# Altium integrated library Linear Technology Power Management Battery Management.IntLib: 626 symbols (part 8 of 56)
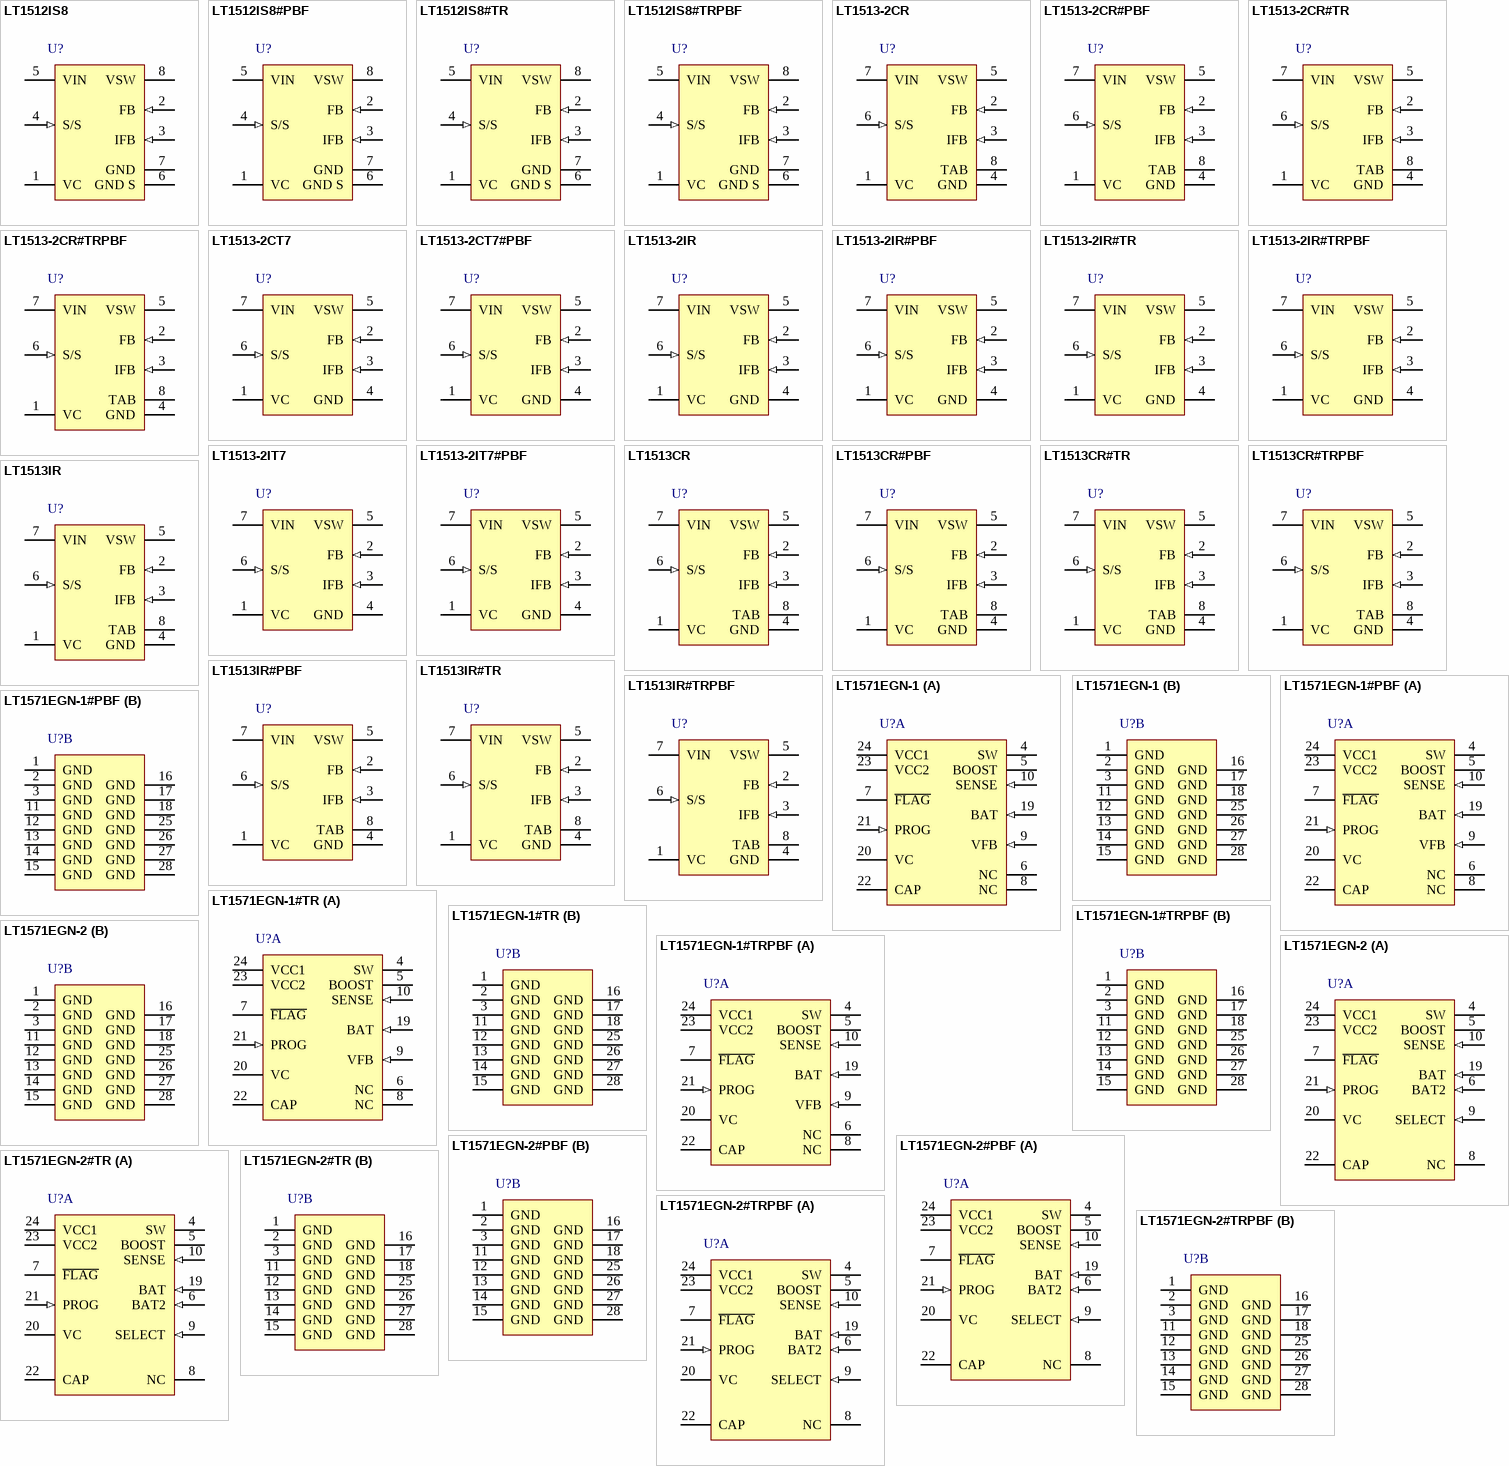
[diagram p29: symbols LT1512IS8 to LT1571EGN-2#TRPBF]

## LT1571EGN-2
designator U?
Integrated Switching Charger with C/10 Detection / Indicator, 6.2 to 27 V Vin, 28-pin SOP (GN-28), -40 to 85 degC; Manufacturer: Linear Technology; PartNumber: LT1571EGN-2; Battery Chemistry: Li-Ion, Li-Polymer; Charge Termination: Microcontroller; Float Voltage: 8.2 V, 8.4 V; Max Charge Current(A): 1.5; Number of Cells: 1, 2, Adj; Vin Max(V): 27; Vin Min(V): 6.2; PackageVersion: Rev. B, 03/2012; PackageReference: GN-28; PackageDescription: 28-Pin Plastic SSOP, Body 9.9 x 3.9 mm, Pitch 0.635 mm; Supplier 1: Digi-Key; Supplier Part Number 1: LT1571EGN-2-ND; RoHS: FALSE; Type of Charger: Switching; Mounting Technology: Surface Mount; ComponentLink1Description: Manufacturer URL; ComponentLink1URL: http://www.linear.com/; ComponentLink2Description: Datasheet; ComponentLink2URL: http://cds.linear.com/docs/en/datasheet/1571f.pdf; ComponentLink3Description: Package Specification; ComponentLink3URL: http://cds.linear.com/docs/en/packaging/05081641_B_GN28.pdf
footprint LT-GN-28_N (SOP, 28-Leads, Body 9.98x3.98mm, Pitch 0.635mm, IPC Medium Density)
footprint LT-GN-28_L (SOP, 28-Leads, Body 9.98x3.98mm, Pitch 0.635mm, IPC High Density)
footprint LT-GN-28_M (SOP, 28-Leads, Body 9.98x3.98mm, Pitch 0.635mm, IPC Low Density)
part A pins: 4 SW (power) "NPN Power Switch Emitter. The Schottky catch diode must be placed with very short lead length in close proximity to SW pin and GND", 5 BOOST "This pin is used to bootstrap and drive the NPN switch to a low on-voltage for low power dissipation. VBOOST= VCC + VBAT when switch is on. For less power dissipation use VBOOST = 3V to 6V (see Applications Information).", 6 BAT2 (in) "This pin is used to connect the battery to the internal preset voltage setting resistor. An internal switch disconnects the internal divider from the battery when the device is in shutdown or when input power is disconnected.(See Datasheet)", 7 ~{FLAG} (oc) "This pin is an open-collector output that is used to indicate end of charge. The F\L\A\G\ pin is driven low when the charge current drops below a certain percentage of the programmed charge current as explained in the CAP (See Datasheet)", 8 NC, 9 SELECT (in) "This pin is used to select the preset battery voltage. For the LT1571-2, leave this pin open for 8.2V and ground it for 8.4V. For the LT1571-5, leave this pin open for 4.1V and ground it for 4.2V. For other battery voltages, (See Datasheet)", 10 SENSE (in) "Current Amplifier CA1 Input. Sensing can be at either terminal of the battery. Note that current sense resistor RS1 (0.08W) is between SENSE and BAT pins.", 19 BAT (in) "Current Amplifier CA1 Input.", 20 VC "This is the inner loop control signal of the current mode PWM. Switching starts at 0.9V. In normal operation, a higher VC corresponds to a higher charge current. A capacitor of at least 0.1uF to GND filters out noise and (See Datasheet)", 21 PROG (in) "This pin is for programming the charge current and for system loop compensation. Charge current is regulated to 2000x the current drawn from the PROG pin. During normal operation, VPROG stays close to 2.465V. If it is (See Datasheet)", 22 CAP "A 0.1uF capacitor from CAP to ground is needed to filter the sampled charge current signal. This filtered signal is used to set the F\L\A\G\ pin when the charge current drops to 20% of the programmed maximum charge current. (See Datasheet)", 23 VCC2 (power) "Input Supply. For good bypass, a low ESR capacitor of 10uF or higher is required, with the lead length kept to a minimum. VCC should be between 8V and 26V and at least 2V higher than VBAT for VBAT less than 10V, and 2.5V (See Datasheet)", 24 VCC1 (power) "Input Supply. For good bypass, a low ESR capacitor of 10uF or higher is required, with the lead length kept to a minimum. VCC should be between 8V and 26V and at least 2V higher than VBAT for VBAT less than 10V, and 2.5V (See Datasheet)"
part B pins: 1 GND (power) "Ground Pin.", 2 GND (power) "Ground Pin.", 3 GND (power) "Ground Pin.", 11 GND (power) "Ground Pin.", 12 GND (power) "Ground Pin.", 13 GND (power) "Ground Pin.", 14 GND (power) "Ground Pin.", 15 GND (power) "Ground Pin.", 16 GND (power) "Ground Pin.", 17 GND (power) "Ground Pin.", 18 GND (power) "Ground Pin.", 25 GND (power) "Ground Pin.", 26 GND (power) "Ground Pin.", 27 GND (power) "Ground Pin.", 28 GND (power) "Ground Pin."

## LT1571EGN-2#PBF
designator U?
Integrated Switching Charger with C/10 Detection / Indicator, 6.2 to 27 V Vin, 28-pin SOP (GN-28), -40 to 85 degC, Pb-Free; Manufacturer: Linear Technology; PartNumber: LT1571EGN-2#PBF; Battery Chemistry: Li-Ion, Li-Polymer; Charge Termination: Microcontroller; Float Voltage: 8.2 V, 8.4 V; Max Charge Current(A): 1.5; Number of Cells: 1, 2, Adj; Vin Max(V): 27; Vin Min(V): 6.2; PackageVersion: Rev. B, 03/2012; PackageReference: GN-28; PackageDescription: 28-Pin Plastic SSOP, Body 9.9 x 3.9 mm, Pitch 0.635 mm; Supplier 1: Digi-Key; Supplier Part Number 1: LT1571EGN-2#PBF-ND; Supplier 2: Farnell; Supplier Part Number 2: 1273484; Supplier 3: Newark; Supplier Part Number 3: 58M0996; RoHS: TRUE; Type of Charger: Switching; Mounting Technology: Surface Mount; ComponentLink1Description: Manufacturer URL; ComponentLink1URL: http://www.linear.com/; ComponentLink2Description: Datasheet; ComponentLink2URL: http://cds.linear.com/docs/en/datasheet/1571f.pdf; ComponentLink3Description: Package Specification; ComponentLink3URL: http://cds.linear.com/docs/en/packaging/05081641_B_GN28.pdf
footprint LT-GN-28_N (SOP, 28-Leads, Body 9.98x3.98mm, Pitch 0.635mm, IPC Medium Density)
footprint LT-GN-28_L (SOP, 28-Leads, Body 9.98x3.98mm, Pitch 0.635mm, IPC High Density)
footprint LT-GN-28_M (SOP, 28-Leads, Body 9.98x3.98mm, Pitch 0.635mm, IPC Low Density)
part A pins: 4 SW (power) "NPN Power Switch Emitter. The Schottky catch diode must be placed with very short lead length in close proximity to SW pin and GND", 5 BOOST "This pin is used to bootstrap and drive the NPN switch to a low on-voltage for low power dissipation. VBOOST= VCC + VBAT when switch is on. For less power dissipation use VBOOST = 3V to 6V (see Applications Information).", 6 BAT2 (in) "This pin is used to connect the battery to the internal preset voltage setting resistor. An internal switch disconnects the internal divider from the battery when the device is in shutdown or when input power is disconnected.(See Datasheet)", 7 ~{FLAG} (oc) "This pin is an open-collector output that is used to indicate end of charge. The F\L\A\G\ pin is driven low when the charge current drops below a certain percentage of the programmed charge current as explained in the CAP (See Datasheet)", 8 NC, 9 SELECT (in) "This pin is used to select the preset battery voltage. For the LT1571-2, leave this pin open for 8.2V and ground it for 8.4V. For the LT1571-5, leave this pin open for 4.1V and ground it for 4.2V. For other battery voltages, (See Datasheet)", 10 SENSE (in) "Current Amplifier CA1 Input. Sensing can be at either terminal of the battery. Note that current sense resistor RS1 (0.08W) is between SENSE and BAT pins.", 19 BAT (in) "Current Amplifier CA1 Input.", 20 VC "This is the inner loop control signal of the current mode PWM. Switching starts at 0.9V. In normal operation, a higher VC corresponds to a higher charge current. A capacitor of at least 0.1uF to GND filters out noise and (See Datasheet)", 21 PROG (in) "This pin is for programming the charge current and for system loop compensation. Charge current is regulated to 2000x the current drawn from the PROG pin. During normal operation, VPROG stays close to 2.465V. If it is (See Datasheet)", 22 CAP "A 0.1uF capacitor from CAP to ground is needed to filter the sampled charge current signal. This filtered signal is used to set the F\L\A\G\ pin when the charge current drops to 20% of the programmed maximum charge current. (See Datasheet)", 23 VCC2 (power) "Input Supply. For good bypass, a low ESR capacitor of 10uF or higher is required, with the lead length kept to a minimum. VCC should be between 8V and 26V and at least 2V higher than VBAT for VBAT less than 10V, and 2.5V (See Datasheet)", 24 VCC1 (power) "Input Supply. For good bypass, a low ESR capacitor of 10uF or higher is required, with the lead length kept to a minimum. VCC should be between 8V and 26V and at least 2V higher than VBAT for VBAT less than 10V, and 2.5V (See Datasheet)"
part B pins: 1 GND (power) "Ground Pin.", 2 GND (power) "Ground Pin.", 3 GND (power) "Ground Pin.", 11 GND (power) "Ground Pin.", 12 GND (power) "Ground Pin.", 13 GND (power) "Ground Pin.", 14 GND (power) "Ground Pin.", 15 GND (power) "Ground Pin.", 16 GND (power) "Ground Pin.", 17 GND (power) "Ground Pin.", 18 GND (power) "Ground Pin.", 25 GND (power) "Ground Pin.", 26 GND (power) "Ground Pin.", 27 GND (power) "Ground Pin.", 28 GND (power) "Ground Pin."

## LT1571EGN-2#TR
designator U?
Integrated Switching Charger with C/10 Detection / Indicator, 6.2 to 27 V Vin, 28-pin SOP (GN-28), -40 to 85 degC, Tape and Reel; Manufacturer: Linear Technology; PartNumber: LT1571EGN-2#TR; Battery Chemistry: Li-Ion, Li-Polymer; Charge Termination: Microcontroller; Float Voltage: 8.2 V, 8.4 V; Max Charge Current(A): 1.5; Number of Cells: 1, 2, Adj; Vin Max(V): 27; Vin Min(V): 6.2; PackageVersion: Rev. B, 03/2012; PackageReference: GN-28; PackageDescription: 28-Pin Plastic SSOP, Body 9.9 x 3.9 mm, Pitch 0.635 mm; Supplier 1: Digi-Key; Supplier Part Number 1: LT1571EGN-2#TR-ND; Packing: Tape and Reel; RoHS: FALSE; Type of Charger: Switching; Mounting Technology: Surface Mount; ComponentLink1Description: Manufacturer URL; ComponentLink1URL: http://www.linear.com/; ComponentLink2Description: Datasheet; ComponentLink2URL: http://cds.linear.com/docs/en/datasheet/1571f.pdf; ComponentLink3Description: Package Specification; ComponentLink3URL: http://cds.linear.com/docs/en/packaging/05081641_B_GN28.pdf
footprint LT-GN-28_N (SOP, 28-Leads, Body 9.98x3.98mm, Pitch 0.635mm, IPC Medium Density)
footprint LT-GN-28_L (SOP, 28-Leads, Body 9.98x3.98mm, Pitch 0.635mm, IPC High Density)
footprint LT-GN-28_M (SOP, 28-Leads, Body 9.98x3.98mm, Pitch 0.635mm, IPC Low Density)
part A pins: 4 SW (power) "NPN Power Switch Emitter. The Schottky catch diode must be placed with very short lead length in close proximity to SW pin and GND", 5 BOOST "This pin is used to bootstrap and drive the NPN switch to a low on-voltage for low power dissipation. VBOOST= VCC + VBAT when switch is on. For less power dissipation use VBOOST = 3V to 6V (see Applications Information).", 6 BAT2 (in) "This pin is used to connect the battery to the internal preset voltage setting resistor. An internal switch disconnects the internal divider from the battery when the device is in shutdown or when input power is disconnected.(See Datasheet)", 7 ~{FLAG} (oc) "This pin is an open-collector output that is used to indicate end of charge. The F\L\A\G\ pin is driven low when the charge current drops below a certain percentage of the programmed charge current as explained in the CAP (See Datasheet)", 8 NC, 9 SELECT (in) "This pin is used to select the preset battery voltage. For the LT1571-2, leave this pin open for 8.2V and ground it for 8.4V. For the LT1571-5, leave this pin open for 4.1V and ground it for 4.2V. For other battery voltages, (See Datasheet)", 10 SENSE (in) "Current Amplifier CA1 Input. Sensing can be at either terminal of the battery. Note that current sense resistor RS1 (0.08W) is between SENSE and BAT pins.", 19 BAT (in) "Current Amplifier CA1 Input.", 20 VC "This is the inner loop control signal of the current mode PWM. Switching starts at 0.9V. In normal operation, a higher VC corresponds to a higher charge current. A capacitor of at least 0.1uF to GND filters out noise and (See Datasheet)", 21 PROG (in) "This pin is for programming the charge current and for system loop compensation. Charge current is regulated to 2000x the current drawn from the PROG pin. During normal operation, VPROG stays close to 2.465V. If it is (See Datasheet)", 22 CAP "A 0.1uF capacitor from CAP to ground is needed to filter the sampled charge current signal. This filtered signal is used to set the F\L\A\G\ pin when the charge current drops to 20% of the programmed maximum charge current. (See Datasheet)", 23 VCC2 (power) "Input Supply. For good bypass, a low ESR capacitor of 10uF or higher is required, with the lead length kept to a minimum. VCC should be between 8V and 26V and at least 2V higher than VBAT for VBAT less than 10V, and 2.5V (See Datasheet)", 24 VCC1 (power) "Input Supply. For good bypass, a low ESR capacitor of 10uF or higher is required, with the lead length kept to a minimum. VCC should be between 8V and 26V and at least 2V higher than VBAT for VBAT less than 10V, and 2.5V (See Datasheet)"
part B pins: 1 GND (power) "Ground Pin.", 2 GND (power) "Ground Pin.", 3 GND (power) "Ground Pin.", 11 GND (power) "Ground Pin.", 12 GND (power) "Ground Pin.", 13 GND (power) "Ground Pin.", 14 GND (power) "Ground Pin.", 15 GND (power) "Ground Pin.", 16 GND (power) "Ground Pin.", 17 GND (power) "Ground Pin.", 18 GND (power) "Ground Pin.", 25 GND (power) "Ground Pin.", 26 GND (power) "Ground Pin.", 27 GND (power) "Ground Pin.", 28 GND (power) "Ground Pin."

## LT1571EGN-2#TRPBF
designator U?
Integrated Switching Charger with C/10 Detection / Indicator, 6.2 to 27 V Vin, 28-pin SOP (GN-28), -40 to 85 degC, Pb-Free, Tape and Reel; Manufacturer: Linear Technology; PartNumber: LT1571EGN-2#TRPBF; Battery Chemistry: Li-Ion, Li-Polymer; Charge Termination: Microcontroller; Float Voltage: 8.2 V, 8.4 V; Max Charge Current(A): 1.5; Number of Cells: 1, 2, Adj; Vin Max(V): 27; Vin Min(V): 6.2; PackageVersion: Rev. B, 03/2012; PackageReference: GN-28; PackageDescription: 28-Pin Plastic SSOP, Body 9.9 x 3.9 mm, Pitch 0.635 mm; Supplier 1: Digi-Key; Supplier Part Number 1: LT1571EGN-2#TRPBF-ND; Packing: Tape and Reel; RoHS: TRUE; Type of Charger: Switching; Mounting Technology: Surface Mount; ComponentLink1Description: Manufacturer URL; ComponentLink1URL: http://www.linear.com/; ComponentLink2Description: Datasheet; ComponentLink2URL: http://cds.linear.com/docs/en/datasheet/1571f.pdf; ComponentLink3Description: Package Specification; ComponentLink3URL: http://cds.linear.com/docs/en/packaging/05081641_B_GN28.pdf
footprint LT-GN-28_N (SOP, 28-Leads, Body 9.98x3.98mm, Pitch 0.635mm, IPC Medium Density)
footprint LT-GN-28_L (SOP, 28-Leads, Body 9.98x3.98mm, Pitch 0.635mm, IPC High Density)
footprint LT-GN-28_M (SOP, 28-Leads, Body 9.98x3.98mm, Pitch 0.635mm, IPC Low Density)
part A pins: 4 SW (power) "NPN Power Switch Emitter. The Schottky catch diode must be placed with very short lead length in close proximity to SW pin and GND", 5 BOOST "This pin is used to bootstrap and drive the NPN switch to a low on-voltage for low power dissipation. VBOOST= VCC + VBAT when switch is on. For less power dissipation use VBOOST = 3V to 6V (see Applications Information).", 6 BAT2 (in) "This pin is used to connect the battery to the internal preset voltage setting resistor. An internal switch disconnects the internal divider from the battery when the device is in shutdown or when input power is disconnected.(See Datasheet)", 7 ~{FLAG} (oc) "This pin is an open-collector output that is used to indicate end of charge. The F\L\A\G\ pin is driven low when the charge current drops below a certain percentage of the programmed charge current as explained in the CAP (See Datasheet)", 8 NC, 9 SELECT (in) "This pin is used to select the preset battery voltage. For the LT1571-2, leave this pin open for 8.2V and ground it for 8.4V. For the LT1571-5, leave this pin open for 4.1V and ground it for 4.2V. For other battery voltages, (See Datasheet)", 10 SENSE (in) "Current Amplifier CA1 Input. Sensing can be at either terminal of the battery. Note that current sense resistor RS1 (0.08W) is between SENSE and BAT pins.", 19 BAT (in) "Current Amplifier CA1 Input.", 20 VC "This is the inner loop control signal of the current mode PWM. Switching starts at 0.9V. In normal operation, a higher VC corresponds to a higher charge current. A capacitor of at least 0.1uF to GND filters out noise and (See Datasheet)", 21 PROG (in) "This pin is for programming the charge current and for system loop compensation. Charge current is regulated to 2000x the current drawn from the PROG pin. During normal operation, VPROG stays close to 2.465V. If it is (See Datasheet)", 22 CAP "A 0.1uF capacitor from CAP to ground is needed to filter the sampled charge current signal. This filtered signal is used to set the F\L\A\G\ pin when the charge current drops to 20% of the programmed maximum charge current. (See Datasheet)", 23 VCC2 (power) "Input Supply. For good bypass, a low ESR capacitor of 10uF or higher is required, with the lead length kept to a minimum. VCC should be between 8V and 26V and at least 2V higher than VBAT for VBAT less than 10V, and 2.5V (See Datasheet)", 24 VCC1 (power) "Input Supply. For good bypass, a low ESR capacitor of 10uF or higher is required, with the lead length kept to a minimum. VCC should be between 8V and 26V and at least 2V higher than VBAT for VBAT less than 10V, and 2.5V (See Datasheet)"
part B pins: 1 GND (power) "Ground Pin.", 2 GND (power) "Ground Pin.", 3 GND (power) "Ground Pin.", 11 GND (power) "Ground Pin.", 12 GND (power) "Ground Pin.", 13 GND (power) "Ground Pin.", 14 GND (power) "Ground Pin.", 15 GND (power) "Ground Pin.", 16 GND (power) "Ground Pin.", 17 GND (power) "Ground Pin.", 18 GND (power) "Ground Pin.", 25 GND (power) "Ground Pin.", 26 GND (power) "Ground Pin.", 27 GND (power) "Ground Pin.", 28 GND (power) "Ground Pin."

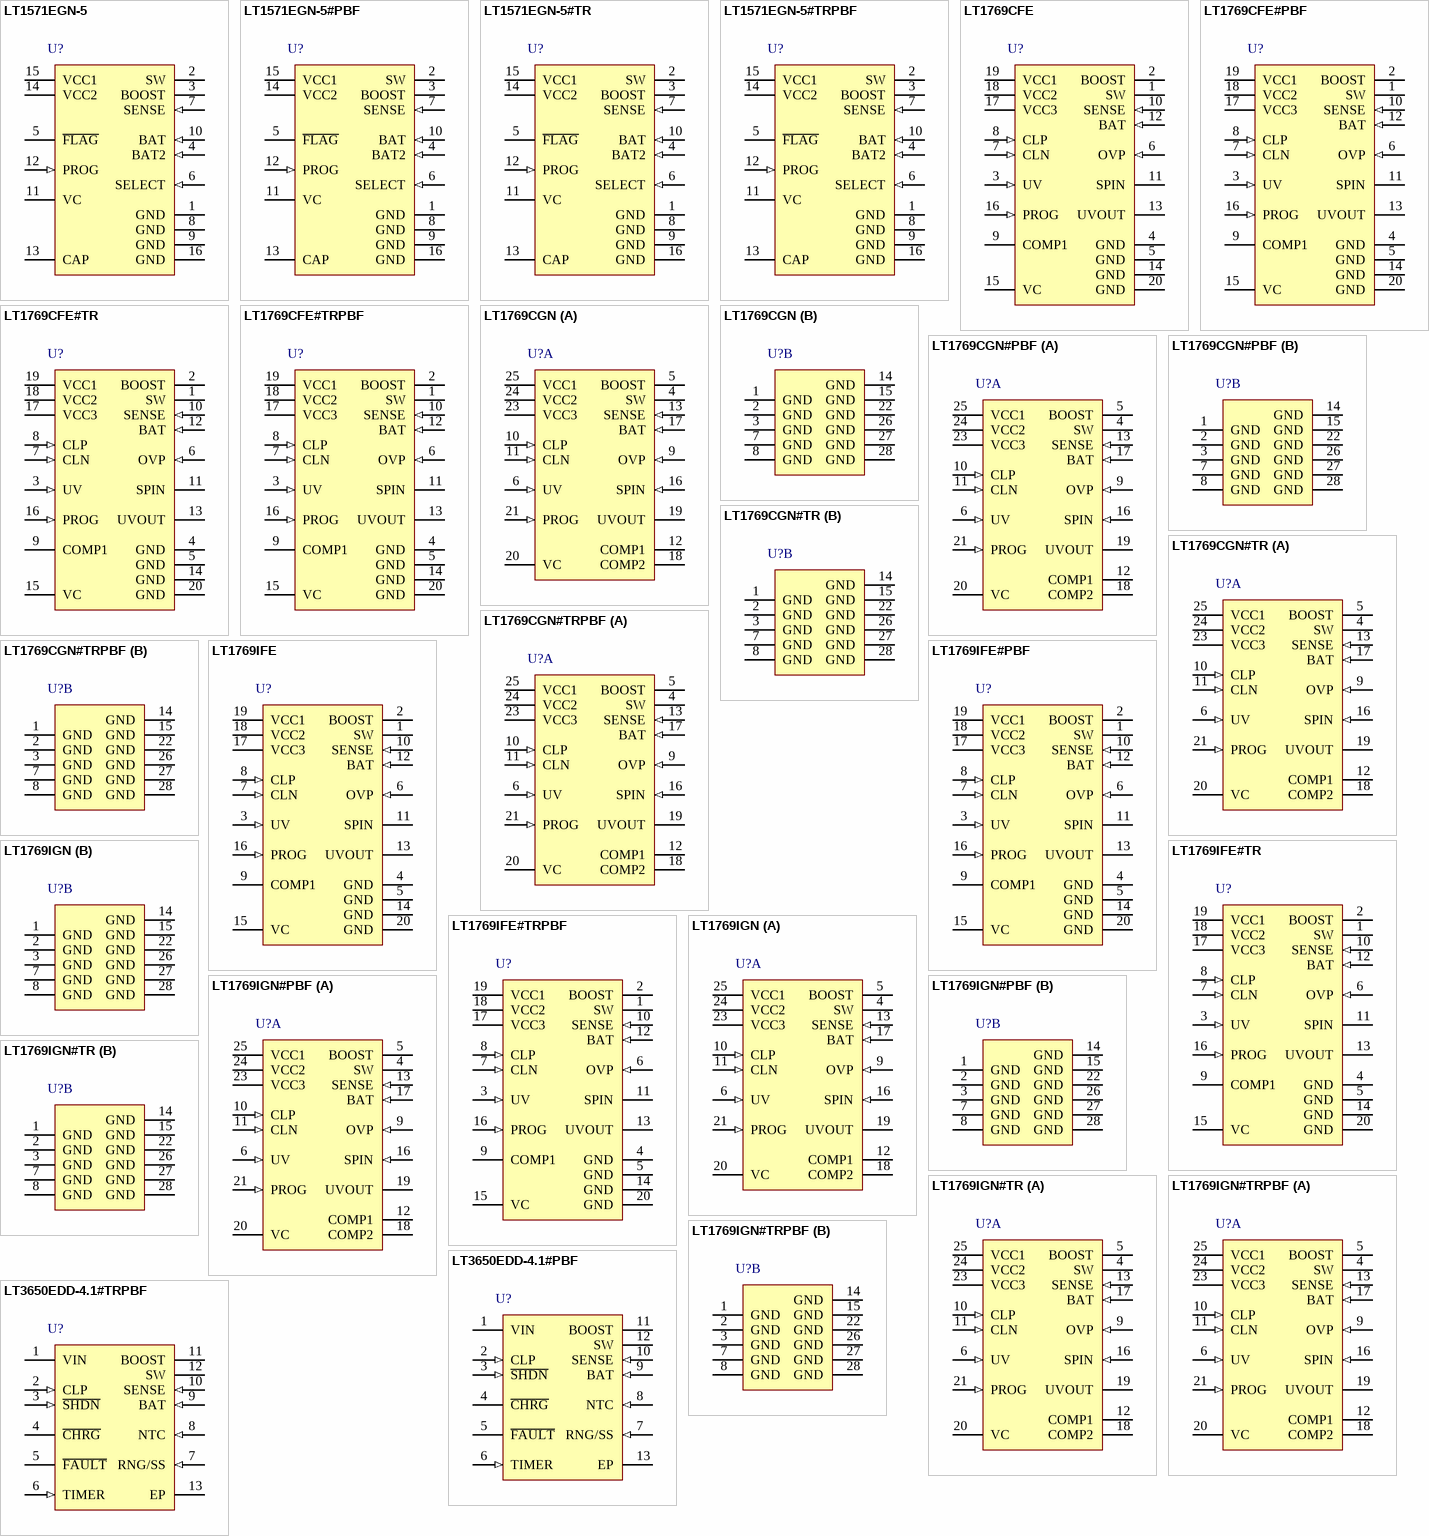
[diagram p3: symbols LT1571EGN-5 to LT3650EDD-4.1#TRPBF]

## LT1571EGN-5
designator U?
Integrated Switching Charger with C/10 Detection / Indicator, 6.2 to 27 V Vin, 16-pin SOP (GN-16), -40 to 85 degC; Manufacturer: Linear Technology; PartNumber: LT1571EGN-5; Battery Chemistry: Li-Ion, Li-Polymer; Charge Termination: Microcontroller; Float Voltage: Adj; Max Charge Current(A): 1.5; Number of Cells: 1, 2, Adj; Vin Max(V): 27; Vin Min(V): 6.2; PackageVersion: Rev. B, 03/2012; PackageReference: GN-16; PackageDescription: 16-Pin Plastic SSOP, Body 4.9 x 3.9 mm, Pitch 0.635 mm; Supplier 1: Digi-Key; Supplier Part Number 1: LT1571EGN-5-ND; RoHS: FALSE; Type of Charger: Switching; Mounting Technology: Surface Mount; ComponentLink1Description: Manufacturer URL; ComponentLink1URL: http://www.linear.com/; ComponentLink2Description: Datasheet; ComponentLink2URL: http://cds.linear.com/docs/en/datasheet/1571f.pdf; ComponentLink3Description: Package Specification; ComponentLink3URL: http://cds.linear.com/docs/en/packaging/05081641_B_GN16.pdf
footprint LT-GN-16_N (SOP, 16-Leads, Body 5x4mm, Pitch 0.635mm, IPC Medium Density)
footprint LT-GN-16_L (SOP, 16-Leads, Body 5x4mm, Pitch 0.635mm, IPC High Density)
footprint LT-GN-16_M (SOP, 16-Leads, Body 5x4mm, Pitch 0.635mm, IPC Low Density)
pins: 1 GND (power) "Ground Pin.", 2 SW (power) "NPN Power Switch Emitter. The Schottky catch diode must be placed with very short lead length in close proximity to SW pin and GND.", 3 BOOST "This pin is used to bootstrap and drive the NPN switch to a low on-voltage for low power dissipation. VBOOST = VCC + VBAT when switch is on. For less power dissipation use VBOOST = 3V to 6V (see Applications Information).", 4 BAT2 (in) "This pin is used to connect the battery to the internal preset voltage setting resistor. An internal switch disconnects the internal divider from the battery when the device is in shutdown or when input power is disconnected.(See Datasheet)", 5 ~{FLAG} (oc) "This pin is an open-collector output that is used to indicate end of charge. The F\L\A\G\ pin is driven low when the charge current drops below a certain percentage of the programmed charge current as explained in the CAP (See Datasheet)", 6 SELECT (in) "This pin is used to select the preset battery voltage. For the LT1571-2, leave this pin open for 8.2V and ground it for 8.4V. For the LT1571-5, leave this pin open for 4.1V and ground it for 4.2V. For other battery voltages, (See Datasheet)", 7 SENSE (in) "Current Amplifier CA1 Input. Sensing can be at either terminal of the battery. Note that current sense resistor RS1 (0.08ohm) is between SENSE and BAT pins.", 8 GND (power) "Ground Pin.", 9 GND (power) "Ground Pin.", 10 BAT (in) "Current Amplifier CA1 Input.", 11 VC "This is the inner loop control signal of the current mode PWM. Switching starts at 0.9V. In normal operation, a higher VC corresponds to a higher charge current. A capacitor of at least 0.1uF to GND filters out noise and (See Datasheet)", 12 PROG (in) "This pin is for programming the charge current and for system loop compensation. Charge current is regulated to 2000X the current drawn from the PROG pin. During normal operation, VPROG stays close to 2.465V. If it is (See Datasheet)", 13 CAP "A 0.1uF capacitor from CAP to ground is needed to filter the sampled charge current signal. This filtered signal is used to set the F\L\A\G\ pin when the charge current drops to 20% of the programmed maximum charge current. (See Datasheet)", 14 VCC2 (power) "Input Supply. For good bypass, a low ESR capacitor of 10uF or higher is required, with the lead length kept to a minimum. VCC should be between 8V and 26V and at least 2V higher than VBAT for VBAT less than 10V, and 2.5V (See Datasheet)", 15 VCC1 (power) "Input Supply. For good bypass, a low ESR capacitor of 10uF or higher is required, with the lead length kept to a minimum. VCC should be between 8V and 26V and at least 2V higher than VBAT for VBAT less than 10V, and 2.5V (See Datasheet)", 16 GND (power) "Ground Pin."

## LT1571EGN-5#PBF
designator U?
Integrated Switching Charger with C/10 Detection / Indicator, 6.2 to 27 V Vin, 16-pin SOP (GN-16), -40 to 85 degC, Pb-Free; Manufacturer: Linear Technology; PartNumber: LT1571EGN-5#PBF; Battery Chemistry: Li-Ion, Li-Polymer; Charge Termination: Microcontroller; Float Voltage: 4.1 V, 4.2 V; Max Charge Current(A): 1.5; Number of Cells: 1, 2, Adj; Vin Max(V): 27; Vin Min(V): 6.2; PackageVersion: Rev. B, 03/2012; PackageReference: GN-16; PackageDescription: 16-Pin Plastic SSOP, Body 4.9 x 3.9 mm, Pitch 0.635 mm; Supplier 1: Digi-Key; Supplier Part Number 1: LT1571EGN-5#PBF-ND; Supplier 2: Farnell; Supplier Part Number 2: 1273485; Supplier 3: Newark; Supplier Part Number 3: 58M1000; RoHS: TRUE; Type of Charger: Switching; Mounting Technology: Surface Mount; ComponentLink1Description: Manufacturer URL; ComponentLink1URL: http://www.linear.com/; ComponentLink2Description: Datasheet; ComponentLink2URL: http://cds.linear.com/docs/en/datasheet/1571f.pdf; ComponentLink3Description: Package Specification; ComponentLink3URL: http://cds.linear.com/docs/en/packaging/05081641_B_GN16.pdf
footprint LT-GN-16_N (SOP, 16-Leads, Body 5x4mm, Pitch 0.635mm, IPC Medium Density)
footprint LT-GN-16_L (SOP, 16-Leads, Body 5x4mm, Pitch 0.635mm, IPC High Density)
footprint LT-GN-16_M (SOP, 16-Leads, Body 5x4mm, Pitch 0.635mm, IPC Low Density)
pins: 1 GND (power) "Ground Pin.", 2 SW (power) "NPN Power Switch Emitter. The Schottky catch diode must be placed with very short lead length in close proximity to SW pin and GND.", 3 BOOST "This pin is used to bootstrap and drive the NPN switch to a low on-voltage for low power dissipation. VBOOST = VCC + VBAT when switch is on. For less power dissipation use VBOOST = 3V to 6V (see Applications Information).", 4 BAT2 (in) "This pin is used to connect the battery to the internal preset voltage setting resistor. An internal switch disconnects the internal divider from the battery when the device is in shutdown or when input power is disconnected.(See Datasheet)", 5 ~{FLAG} (oc) "This pin is an open-collector output that is used to indicate end of charge. The F\L\A\G\ pin is driven low when the charge current drops below a certain percentage of the programmed charge current as explained in the CAP (See Datasheet)", 6 SELECT (in) "This pin is used to select the preset battery voltage. For the LT1571-2, leave this pin open for 8.2V and ground it for 8.4V. For the LT1571-5, leave this pin open for 4.1V and ground it for 4.2V. For other battery voltages, (See Datasheet)", 7 SENSE (in) "Current Amplifier CA1 Input. Sensing can be at either terminal of the battery. Note that current sense resistor RS1 (0.08ohm) is between SENSE and BAT pins.", 8 GND (power) "Ground Pin.", 9 GND (power) "Ground Pin.", 10 BAT (in) "Current Amplifier CA1 Input.", 11 VC "This is the inner loop control signal of the current mode PWM. Switching starts at 0.9V. In normal operation, a higher VC corresponds to a higher charge current. A capacitor of at least 0.1uF to GND filters out noise and (See Datasheet)", 12 PROG (in) "This pin is for programming the charge current and for system loop compensation. Charge current is regulated to 2000X the current drawn from the PROG pin. During normal operation, VPROG stays close to 2.465V. If it is (See Datasheet)", 13 CAP "A 0.1uF capacitor from CAP to ground is needed to filter the sampled charge current signal. This filtered signal is used to set the F\L\A\G\ pin when the charge current drops to 20% of the programmed maximum charge current. (See Datasheet)", 14 VCC2 (power) "Input Supply. For good bypass, a low ESR capacitor of 10uF or higher is required, with the lead length kept to a minimum. VCC should be between 8V and 26V and at least 2V higher than VBAT for VBAT less than 10V, and 2.5V (See Datasheet)", 15 VCC1 (power) "Input Supply. For good bypass, a low ESR capacitor of 10uF or higher is required, with the lead length kept to a minimum. VCC should be between 8V and 26V and at least 2V higher than VBAT for VBAT less than 10V, and 2.5V (See Datasheet)", 16 GND (power) "Ground Pin."

## LT1571EGN-5#TR
designator U?
Integrated Switching Charger with C/10 Detection / Indicator, 6.2 to 27 V Vin, 16-pin SOP (GN-16), -40 to 85 degC, Tape and Reel; Manufacturer: Linear Technology; PartNumber: LT1571EGN-5#TR; Battery Chemistry: Li-Ion, Li-Polymer; Charge Termination: Microcontroller; Float Voltage: 4.1 V, 4.2 V; Max Charge Current(A): 1.5; Number of Cells: 1, 2, Adj; Vin Max(V): 27; Vin Min(V): 6.2; PackageVersion: Rev. B, 03/2012; PackageReference: GN-16; PackageDescription: 16-Pin Plastic SSOP, Body 4.9 x 3.9 mm, Pitch 0.635 mm; Supplier 1: Digi-Key; Supplier Part Number 1: LT1571EGN-5#TR-ND; Packing: Tape and Reel; RoHS: FALSE; Type of Charger: Switching; Mounting Technology: Surface Mount; ComponentLink1Description: Manufacturer URL; ComponentLink1URL: http://www.linear.com/; ComponentLink2Description: Datasheet; ComponentLink2URL: http://cds.linear.com/docs/en/datasheet/1571f.pdf; ComponentLink3Description: Package Specification; ComponentLink3URL: http://cds.linear.com/docs/en/packaging/05081641_B_GN16.pdf
footprint LT-GN-16_N (SOP, 16-Leads, Body 5x4mm, Pitch 0.635mm, IPC Medium Density)
footprint LT-GN-16_L (SOP, 16-Leads, Body 5x4mm, Pitch 0.635mm, IPC High Density)
footprint LT-GN-16_M (SOP, 16-Leads, Body 5x4mm, Pitch 0.635mm, IPC Low Density)
pins: 1 GND (power) "Ground Pin.", 2 SW (power) "NPN Power Switch Emitter. The Schottky catch diode must be placed with very short lead length in close proximity to SW pin and GND.", 3 BOOST "This pin is used to bootstrap and drive the NPN switch to a low on-voltage for low power dissipation. VBOOST = VCC + VBAT when switch is on. For less power dissipation use VBOOST = 3V to 6V (see Applications Information).", 4 BAT2 (in) "This pin is used to connect the battery to the internal preset voltage setting resistor. An internal switch disconnects the internal divider from the battery when the device is in shutdown or when input power is disconnected.(See Datasheet)", 5 ~{FLAG} (oc) "This pin is an open-collector output that is used to indicate end of charge. The F\L\A\G\ pin is driven low when the charge current drops below a certain percentage of the programmed charge current as explained in the CAP (See Datasheet)", 6 SELECT (in) "This pin is used to select the preset battery voltage. For the LT1571-2, leave this pin open for 8.2V and ground it for 8.4V. For the LT1571-5, leave this pin open for 4.1V and ground it for 4.2V. For other battery voltages, (See Datasheet)", 7 SENSE (in) "Current Amplifier CA1 Input. Sensing can be at either terminal of the battery. Note that current sense resistor RS1 (0.08ohm) is between SENSE and BAT pins.", 8 GND (power) "Ground Pin.", 9 GND (power) "Ground Pin.", 10 BAT (in) "Current Amplifier CA1 Input.", 11 VC "This is the inner loop control signal of the current mode PWM. Switching starts at 0.9V. In normal operation, a higher VC corresponds to a higher charge current. A capacitor of at least 0.1uF to GND filters out noise and (See Datasheet)", 12 PROG (in) "This pin is for programming the charge current and for system loop compensation. Charge current is regulated to 2000X the current drawn from the PROG pin. During normal operation, VPROG stays close to 2.465V. If it is (See Datasheet)", 13 CAP "A 0.1uF capacitor from CAP to ground is needed to filter the sampled charge current signal. This filtered signal is used to set the F\L\A\G\ pin when the charge current drops to 20% of the programmed maximum charge current. (See Datasheet)", 14 VCC2 (power) "Input Supply. For good bypass, a low ESR capacitor of 10uF or higher is required, with the lead length kept to a minimum. VCC should be between 8V and 26V and at least 2V higher than VBAT for VBAT less than 10V, and 2.5V (See Datasheet)", 15 VCC1 (power) "Input Supply. For good bypass, a low ESR capacitor of 10uF or higher is required, with the lead length kept to a minimum. VCC should be between 8V and 26V and at least 2V higher than VBAT for VBAT less than 10V, and 2.5V (See Datasheet)", 16 GND (power) "Ground Pin."

## LT1571EGN-5#TRPBF
designator U?
Integrated Switching Charger with C/10 Detection / Indicator, 6.2 to 27 V Vin, 16-pin SOP (GN-16), -40 to 85 degC, Pb-Free, Tape and Reel; Manufacturer: Linear Technology; PartNumber: LT1571EGN-5#TRPBF; Battery Chemistry: Li-Ion, Li-Polymer; Charge Termination: Microcontroller; Float Voltage: 4.1 V, 4.2 V; Max Charge Current(A): 1.5; Number of Cells: 1, 2, Adj; Vin Max(V): 27; Vin Min(V): 6.2; PackageVersion: Rev. B, 03/2012; PackageReference: GN-16; PackageDescription: 16-Pin Plastic SSOP, Body 4.9 x 3.9 mm, Pitch 0.635 mm; Supplier 1: Digi-Key; Supplier Part Number 1: LT1571EGN-5#TRPBF-ND; Packing: Tape and Reel; RoHS: TRUE; Type of Charger: Switching; Mounting Technology: Surface Mount; ComponentLink1Description: Manufacturer URL; ComponentLink1URL: http://www.linear.com/; ComponentLink2Description: Datasheet; ComponentLink2URL: http://cds.linear.com/docs/en/datasheet/1571f.pdf; ComponentLink3Description: Package Specification; ComponentLink3URL: http://cds.linear.com/docs/en/packaging/05081641_B_GN16.pdf
footprint LT-GN-16_N (SOP, 16-Leads, Body 5x4mm, Pitch 0.635mm, IPC Medium Density)
footprint LT-GN-16_L (SOP, 16-Leads, Body 5x4mm, Pitch 0.635mm, IPC High Density)
footprint LT-GN-16_M (SOP, 16-Leads, Body 5x4mm, Pitch 0.635mm, IPC Low Density)
pins: 1 GND (power) "Ground Pin.", 2 SW (power) "NPN Power Switch Emitter. The Schottky catch diode must be placed with very short lead length in close proximity to SW pin and GND.", 3 BOOST "This pin is used to bootstrap and drive the NPN switch to a low on-voltage for low power dissipation. VBOOST = VCC + VBAT when switch is on. For less power dissipation use VBOOST = 3V to 6V (see Applications Information).", 4 BAT2 (in) "This pin is used to connect the battery to the internal preset voltage setting resistor. An internal switch disconnects the internal divider from the battery when the device is in shutdown or when input power is disconnected.(See Datasheet)", 5 ~{FLAG} (oc) "This pin is an open-collector output that is used to indicate end of charge. The F\L\A\G\ pin is driven low when the charge current drops below a certain percentage of the programmed charge current as explained in the CAP (See Datasheet)", 6 SELECT (in) "This pin is used to select the preset battery voltage. For the LT1571-2, leave this pin open for 8.2V and ground it for 8.4V. For the LT1571-5, leave this pin open for 4.1V and ground it for 4.2V. For other battery voltages, (See Datasheet)", 7 SENSE (in) "Current Amplifier CA1 Input. Sensing can be at either terminal of the battery. Note that current sense resistor RS1 (0.08ohm) is between SENSE and BAT pins.", 8 GND (power) "Ground Pin.", 9 GND (power) "Ground Pin.", 10 BAT (in) "Current Amplifier CA1 Input.", 11 VC "This is the inner loop control signal of the current mode PWM. Switching starts at 0.9V. In normal operation, a higher VC corresponds to a higher charge current. A capacitor of at least 0.1uF to GND filters out noise and (See Datasheet)", 12 PROG (in) "This pin is for programming the charge current and for system loop compensation. Charge current is regulated to 2000X the current drawn from the PROG pin. During normal operation, VPROG stays close to 2.465V. If it is (See Datasheet)", 13 CAP "A 0.1uF capacitor from CAP to ground is needed to filter the sampled charge current signal. This filtered signal is used to set the F\L\A\G\ pin when the charge current drops to 20% of the programmed maximum charge current. (See Datasheet)", 14 VCC2 (power) "Input Supply. For good bypass, a low ESR capacitor of 10uF or higher is required, with the lead length kept to a minimum. VCC should be between 8V and 26V and at least 2V higher than VBAT for VBAT less than 10V, and 2.5V (See Datasheet)", 15 VCC1 (power) "Input Supply. For good bypass, a low ESR capacitor of 10uF or higher is required, with the lead length kept to a minimum. VCC should be between 8V and 26V and at least 2V higher than VBAT for VBAT less than 10V, and 2.5V (See Datasheet)", 16 GND (power) "Ground Pin."

## LT1769CFE
designator U?
Constant-Current / Constant-Voltage 2 A Battery Charger with Input Current Limiting, 7 to 29 V Vin, 20-pin SOP (FE-20-EPV-CB), 0 to 70 degC; Manufacturer: Linear Technology; PartNumber: LT1769CFE; Battery Chemistry: Li-Ion, Li-Polymer, NiCd, NiMH, Lead Acid; Charge Termination: Microcontroller; Float Voltage: Adj; Max Charge Current(A): 2; Number of Cells: 1 to 4 (Li), 1 to 12 (Ni); Type of Charger: Switching; Vin Max(V): 29; Vin Min(V): 7; DatasheetVersion: Rev. A; PackageVersion: Rev. I, 05/2011; PackageReference: FE-20; PackageDescription: 20-Pin Plastic TSSOP, Body 6.5 x 4.4 mm, Pitch 0.65 mm; Supplier 1: Digi-Key; Supplier Part Number 1: LT1769CFE-ND; RoHS: FALSE; Mounting Technology: Surface Mount; ComponentLink1Description: Manufacturer URL; ComponentLink1URL: http://www.linear.com/; ComponentLink2Description: Datasheet; ComponentLink2URL: http://cds.linear.com/docs/en/datasheet/1769fa.pdf; ComponentLink3Description: Package Specification; ComponentLink3URL: http://cds.linear.com/docs/en/packaging/05081663__J_FE20(CB).pdf
footprint LT-FE-20-EPV-CB_N (SOP, 20-Leads, Body 6.6x4.5mm, Pitch 0.65mm, Thermal Pad 3.86x2.74mm, IPC Medium Density)
footprint LT-FE-20-EPV-CB_L (SOP, 20-Leads, Body 6.6x4.5mm, Pitch 0.65mm, Thermal Pad 3.86x2.74mm, IPC High Density)
footprint LT-FE-20-EPV-CB_M (SOP, 20-Leads, Body 6.6x4.5mm, Pitch 0.65mm, Thermal Pad 3.86x2.74mm, IPC Low Density)
pins: 1 SW "Switch Output. The Schottky catch diode must be placed with very short lead length in close proximity to SW pin and GND.", 2 BOOST "This pin is used to bootstrap and drive the switch power NPN transistor to a low on-voltage for low power dissipation. In Figure 1, VBOOST = VCC + VBAT when switch is on. For lowest IC power dissipation, connect boost diode (See Datasheet)", 3 UV (in) "Undervoltage Lockout Input. The rising threshold is at 6.7V with a hysteresis of 0.5V. Switching stops in undervoltage lockout. When the input supply (normally the wall adapter output) to the IC is removed, the UV pin must (See Datasheet)", 4 GND (power) "Ground Pins. Must be connected to expanded PC lands for proper heat sinking. See Applications Information section for details.", 5 GND (power) "Ground Pins. Must be connected to expanded PC lands for proper heat sinking. See Applications Information section for details.", 6 OVP (in) "This is the input to amplifier VA with a threshold of 2.465V. Typical bias current is about 3nA out of this pin. For charging lithium-ion batteries, VA monitors the battery voltage and reduces charging when battery voltage (See Datasheet)", 7 CLN (in) "This is the negative input to the input current limit amplifier CL1.", 8 CLP (in) "This is the positive input to the input current limit amplifier CL1. The threshold is set at 100mV. When used to limit supply current, a filter is needed to filter out the 200kHz switching noise.", 9 COMP1 "This is the compensation node for the input current limit amplifier CL1. At input adapter current limit, this node rises to 1V. By forcing COMP1 low with an external transistor, amplifier CL1 will be defeated (no adapter (See Datasheet)", 10 SENSE (in) "Current Amplifier CA1 Input. Sensing can be at either terminal of the battery.", 11 SPIN "This pin is for the current amplifier CA1 bias. It must be connected to RS1 as shown in the 2A Lithium Battery Charger (Figure 1).", 12 BAT (in) "Current Amplifier CA1 Input.", 13 UVOUT (oc) "This is an open-collector output for undervoltage lockout status. It stays low in undervoltage state. With an external pull-up resistor, it goes high at valid VCC. Note that the base drive of the open-collector NPN comes (See Datasheet)", 14 GND (power) "Ground Pins. Must be connected to expanded PC lands for proper heat sinking. See Applications Information section for details.", 15 VC "This is the inner loop control signal for the current mode PWM. Switching starts at 0.7V. In normal operation, a higher VC corresponds to higher charge current. A capacitor of at least 0.33mF to GND filters out noise and (See Datasheet)", 16 PROG (in) "This pin is for programming the charge current and for system loop compensation. During normal operation, VPROG stays close to 2.465V. If it is shorted to GND switching will stop. When a microprocessor controlled DAC is used (See Datasheet)", 17 VCC3 (power) "Input Supply. For good bypass, a low ESR capacitor of 15uF or higher is required, with the lead length kept to a minimum. VCC should be between 8V and 28V and at least 3V higher than VBAT. Undervoltage lockout starts and (See Datasheet)", 18 VCC2 (power) "Input Supply. For good bypass, a low ESR capacitor of 15uF or higher is required, with the lead length kept to a minimum. VCC should be between 8V and 28V and at least 3V higher than VBAT. Undervoltage lockout starts and (See Datasheet)", 19 VCC1 (power) "Input Supply. For good bypass, a low ESR capacitor of 15uF or higher is required, with the lead length kept to a minimum. VCC should be between 8V and 28V and at least 3V higher than VBAT. Undervoltage lockout starts and (See Datasheet)", 20 GND (power) "Ground Pins. Must be connected to expanded PC lands for proper heat sinking. See Applications Information section for details."

## LT1769CFE#PBF
designator U?
Constant-Current / Constant-Voltage 2 A Battery Charger with Input Current Limiting, 7 to 29 V Vin, 20-pin SOP (FE-20-EPV-CB), 0 to 70 degC, Pb-Free; Manufacturer: Linear Technology; PartNumber: LT1769CFE#PBF; Battery Chemistry: Li-Ion, Li-Polymer, NiCd, NiMH, Lead Acid; Charge Termination: Microcontroller; Float Voltage: Adj; Max Charge Current(A): 2; Number of Cells: 1 to 4 (Li), 1 to 12 (Ni); Type of Charger: Switching; Vin Max(V): 29; Vin Min(V): 7; DatasheetVersion: Rev. A; PackageVersion: Rev. I, 05/2011; PackageReference: FE-20; PackageDescription: 20-Pin Plastic TSSOP, Body 6.5 x 4.4 mm, Pitch 0.65 mm; Supplier 1: Digi-Key; Supplier Part Number 1: LT1769CFE#PBF-ND; RoHS: TRUE; Mounting Technology: Surface Mount; ComponentLink1Description: Manufacturer URL; ComponentLink1URL: http://www.linear.com/; ComponentLink2Description: Datasheet; ComponentLink2URL: http://cds.linear.com/docs/en/datasheet/1769fa.pdf; ComponentLink3Description: Package Specification; ComponentLink3URL: http://cds.linear.com/docs/en/packaging/05081663__J_FE20(CB).pdf
footprint LT-FE-20-EPV-CB_N (SOP, 20-Leads, Body 6.6x4.5mm, Pitch 0.65mm, Thermal Pad 3.86x2.74mm, IPC Medium Density)
footprint LT-FE-20-EPV-CB_L (SOP, 20-Leads, Body 6.6x4.5mm, Pitch 0.65mm, Thermal Pad 3.86x2.74mm, IPC High Density)
footprint LT-FE-20-EPV-CB_M (SOP, 20-Leads, Body 6.6x4.5mm, Pitch 0.65mm, Thermal Pad 3.86x2.74mm, IPC Low Density)
pins: 1 SW "Switch Output. The Schottky catch diode must be placed with very short lead length in close proximity to SW pin and GND.", 2 BOOST "This pin is used to bootstrap and drive the switch power NPN transistor to a low on-voltage for low power dissipation. In Figure 1, VBOOST = VCC + VBAT when switch is on. For lowest IC power dissipation, connect boost diode (See Datasheet)", 3 UV (in) "Undervoltage Lockout Input. The rising threshold is at 6.7V with a hysteresis of 0.5V. Switching stops in undervoltage lockout. When the input supply (normally the wall adapter output) to the IC is removed, the UV pin must (See Datasheet)", 4 GND (power) "Ground Pins. Must be connected to expanded PC lands for proper heat sinking. See Applications Information section for details.", 5 GND (power) "Ground Pins. Must be connected to expanded PC lands for proper heat sinking. See Applications Information section for details.", 6 OVP (in) "This is the input to amplifier VA with a threshold of 2.465V. Typical bias current is about 3nA out of this pin. For charging lithium-ion batteries, VA monitors the battery voltage and reduces charging when battery voltage (See Datasheet)", 7 CLN (in) "This is the negative input to the input current limit amplifier CL1.", 8 CLP (in) "This is the positive input to the input current limit amplifier CL1. The threshold is set at 100mV. When used to limit supply current, a filter is needed to filter out the 200kHz switching noise.", 9 COMP1 "This is the compensation node for the input current limit amplifier CL1. At input adapter current limit, this node rises to 1V. By forcing COMP1 low with an external transistor, amplifier CL1 will be defeated (no adapter (See Datasheet)", 10 SENSE (in) "Current Amplifier CA1 Input. Sensing can be at either terminal of the battery.", 11 SPIN "This pin is for the current amplifier CA1 bias. It must be connected to RS1 as shown in the 2A Lithium Battery Charger (Figure 1).", 12 BAT (in) "Current Amplifier CA1 Input.", 13 UVOUT (oc) "This is an open-collector output for undervoltage lockout status. It stays low in undervoltage state. With an external pull-up resistor, it goes high at valid VCC. Note that the base drive of the open-collector NPN comes (See Datasheet)", 14 GND (power) "Ground Pins. Must be connected to expanded PC lands for proper heat sinking. See Applications Information section for details.", 15 VC "This is the inner loop control signal for the current mode PWM. Switching starts at 0.7V. In normal operation, a higher VC corresponds to higher charge current. A capacitor of at least 0.33mF to GND filters out noise and (See Datasheet)", 16 PROG (in) "This pin is for programming the charge current and for system loop compensation. During normal operation, VPROG stays close to 2.465V. If it is shorted to GND switching will stop. When a microprocessor controlled DAC is used (See Datasheet)", 17 VCC3 (power) "Input Supply. For good bypass, a low ESR capacitor of 15uF or higher is required, with the lead length kept to a minimum. VCC should be between 8V and 28V and at least 3V higher than VBAT. Undervoltage lockout starts and (See Datasheet)", 18 VCC2 (power) "Input Supply. For good bypass, a low ESR capacitor of 15uF or higher is required, with the lead length kept to a minimum. VCC should be between 8V and 28V and at least 3V higher than VBAT. Undervoltage lockout starts and (See Datasheet)", 19 VCC1 (power) "Input Supply. For good bypass, a low ESR capacitor of 15uF or higher is required, with the lead length kept to a minimum. VCC should be between 8V and 28V and at least 3V higher than VBAT. Undervoltage lockout starts and (See Datasheet)", 20 GND (power) "Ground Pins. Must be connected to expanded PC lands for proper heat sinking. See Applications Information section for details."

## LT1769CFE#TR
designator U?
Constant-Current / Constant-Voltage 2 A Battery Charger with Input Current Limiting, 7 to 29 V Vin, 20-pin SOP (FE-20-EPV-CB), 0 to 70 degC, Tape and Reel; Manufacturer: Linear Technology; PartNumber: LT1769CFE#TR; Battery Chemistry: Li-Ion, Li-Polymer, NiCd, NiMH, Lead Acid; Charge Termination: Microcontroller; Float Voltage: Adj; Max Charge Current(A): 2; Number of Cells: 1 to 4 (Li), 1 to 12 (Ni); Type of Charger: Switching; Vin Max(V): 29; Vin Min(V): 7; DatasheetVersion: Rev. A; PackageVersion: Rev. I, 05/2011; PackageReference: FE-20; PackageDescription: 20-Pin Plastic TSSOP, Body 6.5 x 4.4 mm, Pitch 0.65 mm; Supplier 1: Digi-Key; Supplier Part Number 1: LT1769CFETR-ND; Packing: Tape and Reel; RoHS: FALSE; Mounting Technology: Surface Mount; ComponentLink1Description: Manufacturer URL; ComponentLink1URL: http://www.linear.com/; ComponentLink2Description: Datasheet; ComponentLink2URL: http://cds.linear.com/docs/en/datasheet/1769fa.pdf; ComponentLink3Description: Package Specification; ComponentLink3URL: http://cds.linear.com/docs/en/packaging/05081663__J_FE20(CB).pdf
footprint LT-FE-20-EPV-CB_N (SOP, 20-Leads, Body 6.6x4.5mm, Pitch 0.65mm, Thermal Pad 3.86x2.74mm, IPC Medium Density)
footprint LT-FE-20-EPV-CB_L (SOP, 20-Leads, Body 6.6x4.5mm, Pitch 0.65mm, Thermal Pad 3.86x2.74mm, IPC High Density)
footprint LT-FE-20-EPV-CB_M (SOP, 20-Leads, Body 6.6x4.5mm, Pitch 0.65mm, Thermal Pad 3.86x2.74mm, IPC Low Density)
pins: 1 SW "Switch Output. The Schottky catch diode must be placed with very short lead length in close proximity to SW pin and GND.", 2 BOOST "This pin is used to bootstrap and drive the switch power NPN transistor to a low on-voltage for low power dissipation. In Figure 1, VBOOST = VCC + VBAT when switch is on. For lowest IC power dissipation, connect boost diode (See Datasheet)", 3 UV (in) "Undervoltage Lockout Input. The rising threshold is at 6.7V with a hysteresis of 0.5V. Switching stops in undervoltage lockout. When the input supply (normally the wall adapter output) to the IC is removed, the UV pin must (See Datasheet)", 4 GND (power) "Ground Pins. Must be connected to expanded PC lands for proper heat sinking. See Applications Information section for details.", 5 GND (power) "Ground Pins. Must be connected to expanded PC lands for proper heat sinking. See Applications Information section for details.", 6 OVP (in) "This is the input to amplifier VA with a threshold of 2.465V. Typical bias current is about 3nA out of this pin. For charging lithium-ion batteries, VA monitors the battery voltage and reduces charging when battery voltage (See Datasheet)", 7 CLN (in) "This is the negative input to the input current limit amplifier CL1.", 8 CLP (in) "This is the positive input to the input current limit amplifier CL1. The threshold is set at 100mV. When used to limit supply current, a filter is needed to filter out the 200kHz switching noise.", 9 COMP1 "This is the compensation node for the input current limit amplifier CL1. At input adapter current limit, this node rises to 1V. By forcing COMP1 low with an external transistor, amplifier CL1 will be defeated (no adapter (See Datasheet)", 10 SENSE (in) "Current Amplifier CA1 Input. Sensing can be at either terminal of the battery.", 11 SPIN "This pin is for the current amplifier CA1 bias. It must be connected to RS1 as shown in the 2A Lithium Battery Charger (Figure 1).", 12 BAT (in) "Current Amplifier CA1 Input.", 13 UVOUT (oc) "This is an open-collector output for undervoltage lockout status. It stays low in undervoltage state. With an external pull-up resistor, it goes high at valid VCC. Note that the base drive of the open-collector NPN comes (See Datasheet)", 14 GND (power) "Ground Pins. Must be connected to expanded PC lands for proper heat sinking. See Applications Information section for details.", 15 VC "This is the inner loop control signal for the current mode PWM. Switching starts at 0.7V. In normal operation, a higher VC corresponds to higher charge current. A capacitor of at least 0.33mF to GND filters out noise and (See Datasheet)", 16 PROG (in) "This pin is for programming the charge current and for system loop compensation. During normal operation, VPROG stays close to 2.465V. If it is shorted to GND switching will stop. When a microprocessor controlled DAC is used (See Datasheet)", 17 VCC3 (power) "Input Supply. For good bypass, a low ESR capacitor of 15uF or higher is required, with the lead length kept to a minimum. VCC should be between 8V and 28V and at least 3V higher than VBAT. Undervoltage lockout starts and (See Datasheet)", 18 VCC2 (power) "Input Supply. For good bypass, a low ESR capacitor of 15uF or higher is required, with the lead length kept to a minimum. VCC should be between 8V and 28V and at least 3V higher than VBAT. Undervoltage lockout starts and (See Datasheet)", 19 VCC1 (power) "Input Supply. For good bypass, a low ESR capacitor of 15uF or higher is required, with the lead length kept to a minimum. VCC should be between 8V and 28V and at least 3V higher than VBAT. Undervoltage lockout starts and (See Datasheet)", 20 GND (power) "Ground Pins. Must be connected to expanded PC lands for proper heat sinking. See Applications Information section for details."